# Altium footprint library SSM-117-L-DV.PCBLIB: 1 footprints
Each footprint in its own frame and in the unit in brackets; x right, y up, seen from the top. Pads: shape width x height; smd on the part's side, far side on the other; paste and mask are expansions set on the pad; w line width, h text height; cw(c..) or ccw(c..) is an arc to the next point about the centre after c.
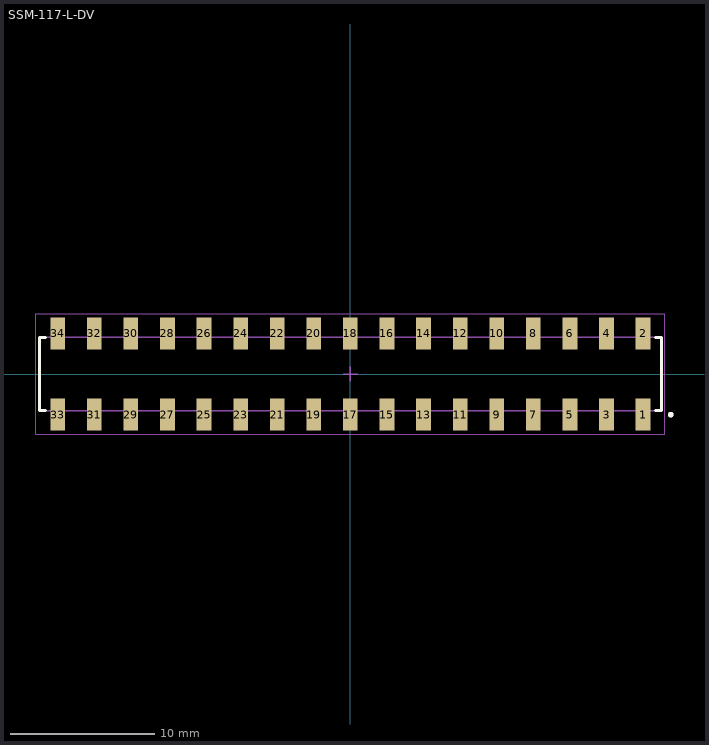
[diagram p0: the footprint, top view; thin cyan lines are the x and y axes]

## SSM-117-L-DV [mm]
pads (34):
  rect 1.02x2.22 smd: 1(20.32,-2.825) 2(20.32,2.825) 3(17.78,-2.825) 4(17.78,2.825) 5(15.24,-2.825) 6(15.24,2.825) 7(12.7,-2.825) 8(12.7,2.825) 9(10.16,-2.825) 10(10.16,2.825) 11(7.62,-2.825) 12(7.62,2.825) 13(5.08,-2.825) 14(5.08,2.825) 15(2.54,-2.825) 16(2.54,2.825) 17(0,-2.825) 18(0,2.825) 19(-2.54,-2.825) 20(-2.54,2.825) 21(-5.08,-2.825) 22(-5.08,2.825) 23(-7.62,-2.825) 24(-7.62,2.825) 25(-10.16,-2.825) 26(-10.16,2.825) 27(-12.7,-2.825) 28(-12.7,2.825) 29(-15.24,-2.825) 30(-15.24,2.825) 31(-17.78,-2.825) 32(-17.78,2.825) 33(-20.32,-2.825) 34(-20.32,2.825)
Top Overlay:
  circle w0.2: c22.24,-2.825 r0.1
  lines w0.2: -21.18,-2.54 -21.59,-2.54 -21.59,2.54 -21.18,2.54 ; 21.18,-2.54 21.59,-2.54 21.59,2.54 21.18,2.54
Top Assembly:
  circle w0.2: c22.24,-2.825 r0.1
  lines w0.1: -21.59,-2.54 -21.59,2.54 ; -21.59,-2.54 21.59,-2.54 ; -21.59,-2.54 -21.59,2.54 ; -21.59,2.54 21.59,2.54 ; -21.59,2.54 21.59,2.54 ; 21.59,-2.54 21.59,2.54 ; 21.59,-2.54 21.59,2.54
Top Courtyard:
  lines w0.05: -21.84,-4.185 21.84,-4.185 21.84,4.185 -21.84,4.185 -21.84,-4.185
Top Designator:
  text ".Designator" at -1.3,-0.412 h1
Top Component Center:
  lines w0.1: -0.5,0 0.5,0 ; 0,-0.5 0,0.5
3D body "SSM-117-L-DV.stp": height 7.32, standoff -0.1, extent -21.59,-3.518 21.59,3.518